# Altium schematic symbol library MC68HC908QT4.SchLib: 1 symbol
Pins are listed as number, name and electrical type; pins without a type are passive.

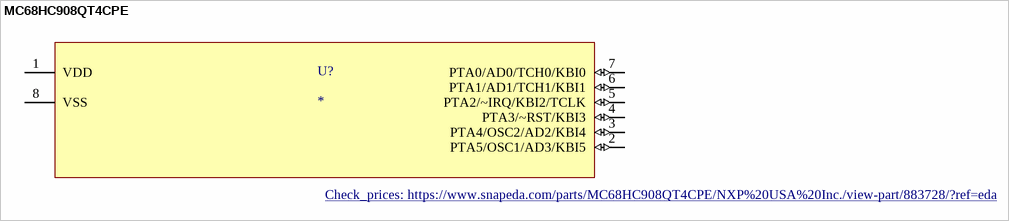
[diagram p0: symbol MC68HC908QT4CPE]

## MC68HC908QT4CPE
designator U?
HC08 Microcontroller IC 8-Bit 8MHz 4KB (4K x 8) FLASH 8-PDIP; MP: MC68HC908QT4CPE; MF: NXP USA; SnapEDA_Link: https://www.snapeda.com/parts/MC68HC908QT4CPE/NXP%20USA%20Inc./view-part/883728/?ref=snap; Price: None; Purchase-URL: https://pricing.snapeda.com/search/part/MC68HC908QT4CPE/?ref=eda; Package: DIP-8 NXP Semiconductors; Availability: Warning; Value: *; Check_prices: https://www.snapeda.com/parts/MC68HC908QT4CPE/NXP%20USA%20Inc./view-part/883728/?ref=eda
footprint DIP254P762X533-8
pins: 1 VDD (power), 2 PTA5/OSC1/AD3/KBI5 (io), 3 PTA4/OSC2/AD2/KBI4 (io), 4 PTA3/~RST/KBI3 (io), 5 PTA2/~IRQ/KBI2/TCLK (io), 6 PTA1/AD1/TCH1/KBI1 (io), 7 PTA0/AD0/TCH0/KBI0 (io), 8 VSS